# EAGLE library part QT-PY (library Adafruit_Modules)
Adafruit QT Py (SAMD21 Dev Board with STEMMA QT)
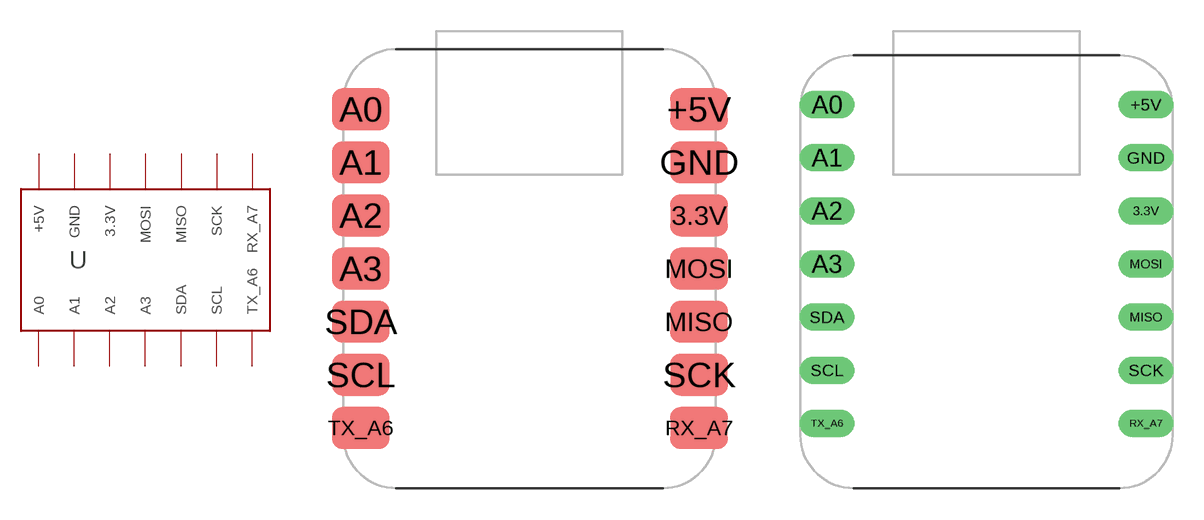
[diagram p28: symbol with the pads of QY-PY; footprints QY-PY, QY-PY_HEADER]

Designator prefix -

## QT-PY_FLAT (ADAFRUIT: 4600)  [QY-PY]
3.3V  3.3V  out
+5V  +5V  pwr
A0  A0
A1  A1
A2  A2
A3  A3
GND  GND  pwr
MISO  MISO
MOSI  MOSI
RX_A7  RX_A7
SCK  SCK
SCL  SCL
SDA  SDA
TX_A6  TX_A6

## QT-PY_HEADER (ADAFRUIT: 4600)  [QY-PY_HEADER]
Pads as for QY-PY

## Footprint QY-PY (pad centres in mm)
Adafruit QT-PY (Flat Solder to Board)
smd 2.75 x 2: 3.3V 17,13.04; +5V 17,18.12; A0 0.835,18.12; A1 0.835,15.58; A2 0.835,13.04; A3 0.835,10.5; GND 17,15.58; MISO 17,7.96; MOSI 17,10.5; RX_A7 17,2.88; SCK 17,5.42; SCL 0.835,5.42; SDA 0.835,7.96; TX_A6 0.835,2.88

## Footprint QY-PY_HEADER (pad centres in mm)
Adafruit QT-PY (Header Mount)
drill 0.8 long: 3.3V 16.51,13.259; +5V 16.51,18.339; A0 1.27,18.339; A1 1.27,15.799; A2 1.27,13.259; A3 1.27,10.719; GND 16.51,15.799; MISO 16.51,8.179; MOSI 16.51,10.719; RX_A7 16.51,3.099; SCK 16.51,5.639; SCL 1.27,5.639; SDA 1.27,8.179; TX_A6 1.27,3.099